# Altium footprint library IOPcbLib.PcbLib: 10 footprints
Each footprint in its own frame and in the unit in brackets; x right, y up, seen from the top. Pads: shape width x height; smd on the part's side, far side on the other; paste and mask are expansions set on the pad; w line width, h text height; cw(c..) or ccw(c..) is an arc to the next point about the centre after c.
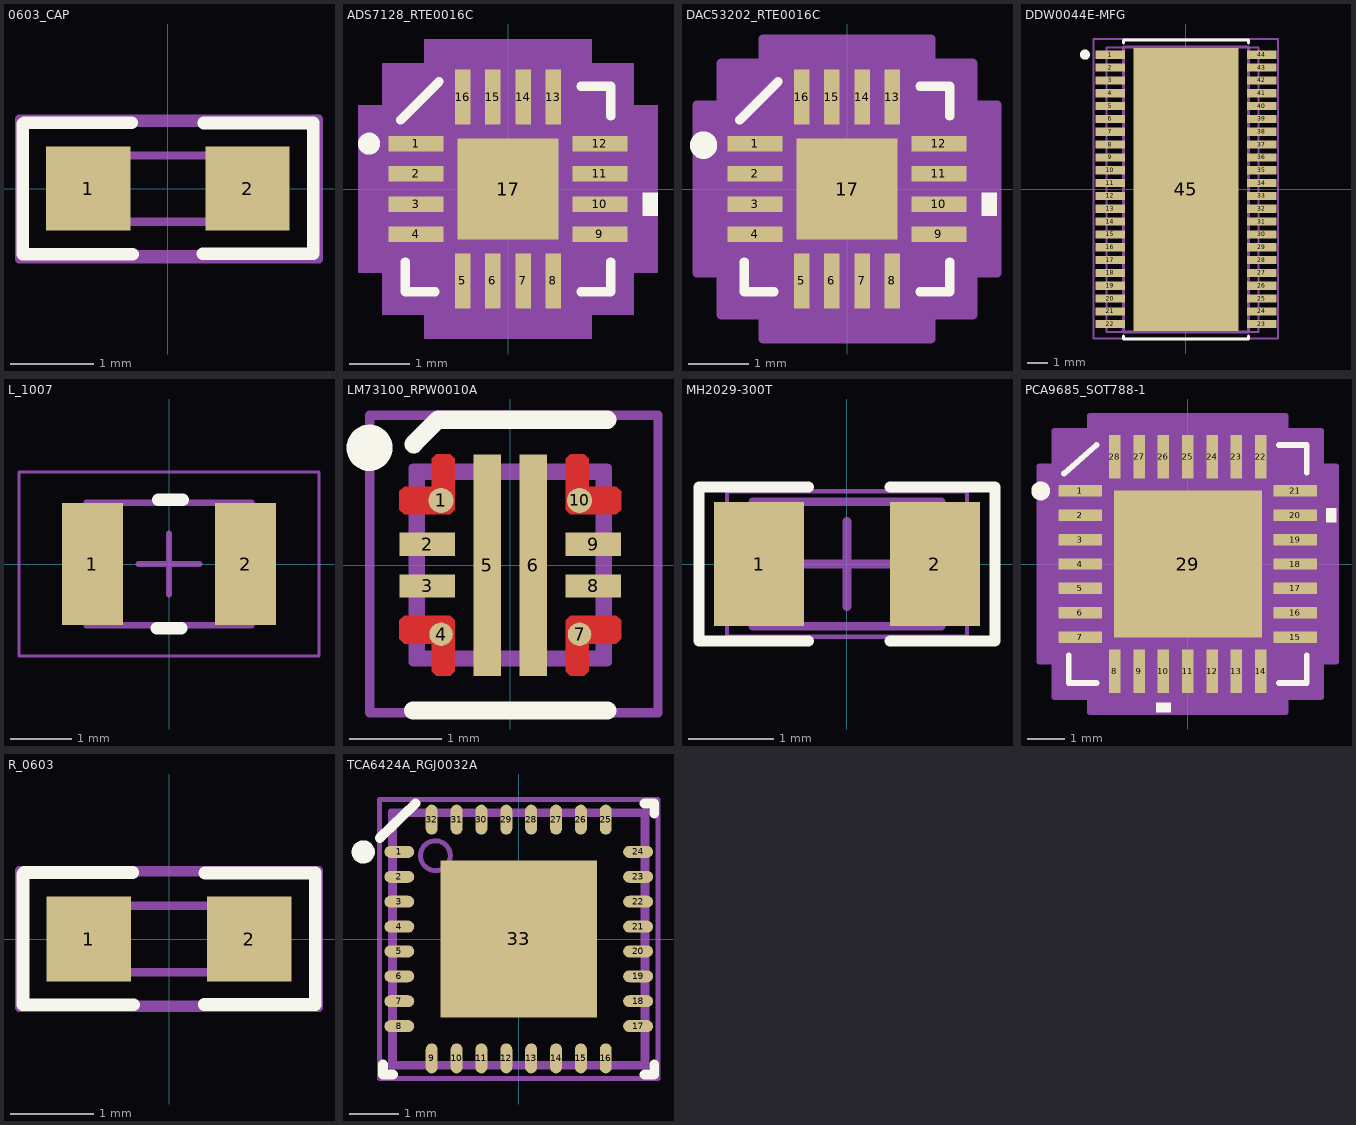
[diagram p0: the footprints below, top view; thin cyan lines are the x and y axes]

## 0603_CAP [mil]
pads (2):
  rect 40x40 smd: 1(-37.89,0.14) 2(37.89,0.14)
Top Overlay:
  lines w6: -68.99,-30.89 -68.99,30.89 ; -68.9,-30.98 -16.76,-30.98 ; -68.36,31.53 -17.13,31.53 ; 16.59,-30.84 69.1,-30.84 69.1,31.36 16.97,31.36
Top Assembly:
  lines w3.94: -68.9,-30.98 -68.9,31.53 69.1,31.53 69.1,-30.98 -68.9,-30.98
  text ".Designator" at -59.06,-7.87 h39.37
Top Component Outline:
  lines w4: -31.49,-15.6 -31.49,15.89 31.5,15.89 31.5,-15.6 -31.49,-15.6
Mechanical 15:
  lines w3.94: -70.79,-33.46 71.85,-33.46 71.85,33.39 -70.79,33.39 -70.79,-33.46
3D body "User Library-ECHU_PPS.step": height 27.56, standoff 0, extent -31.49,-15.6 31.5,15.89

## ADS7128_RTE0016C [mm]
pads (17):
  rect 0.908x0.255 smd paste+0: 1(-1.521,0.75) 2(-1.521,0.25) 3(-1.521,-0.25) 4(-1.521,-0.75) 9(1.521,-0.75) 10(1.521,-0.25) 11(1.521,0.25) 12(1.521,0.75)
  rect 0.255x0.908 smd paste+0: 5(-0.75,-1.521) 6(-0.25,-1.521) 7(0.25,-1.521) 8(0.75,-1.521) 13(0.75,1.521) 14(0.25,1.521) 15(-0.25,1.521) 16(-0.75,1.521)
  rect 1.676x1.676 smd paste+0: 17(0,0)
Top Overlay:
  circle w0.254: c-2.3,0.75 r0.056
  region: 2.229,-0.059 2.483,-0.059 2.483,-0.44 2.229,-0.44
  lines w0.152: -1.778,1.143 -1.143,1.778 ; -1.702,-1.21 -1.702,-1.702 -1.21,-1.702 ; 1.21,-1.702 1.702,-1.702 1.702,-1.21 ; 1.21,1.702 1.702,1.702 1.702,1.21
Top Assembly:
  lines w0.1: -1.498,-1.498 1.498,-1.498 1.498,1.498 -1.498,1.498 -1.498,-1.498
  text ".Designator" at -1.3,-0.314 h1.52
Top Component Outline:
  lines w0.025: -1.575,0.305 -0.305,1.575 ; -1.575,-1.575 1.575,-1.575 1.575,1.575 -1.575,1.575 -1.575,-1.575 ; -1.575,-0.902 -1.575,-0.598 -1.575,-0.902 ; -1.575,-0.402 -1.575,-0.098 -1.575,-0.402 ; -1.575,0.098 -1.575,0.402 -1.575,0.098 ; -1.575,0.598 -1.575,0.902 -1.575,0.598 ; -0.902,-1.575 -0.598,-1.575 -0.902,-1.575 ; -0.902,1.575 -0.598,1.575 -0.902,1.575 ; -0.402,-1.575 -0.098,-1.575 -0.402,-1.575 ; -0.402,1.575 -0.098,1.575 -0.402,1.575 ; 0.098,-1.575 0.402,-1.575 0.098,-1.575 ; 0.098,1.575 0.402,1.575 0.098,1.575 ; 0.598,-1.575 0.902,-1.575 0.598,-1.575 ; 0.598,1.575 0.902,1.575 0.598,1.575 ; 1.575,-0.902 1.575,-0.598 1.575,-0.902 ; 1.575,-0.402 1.575,-0.098 1.575,-0.402 ; 1.575,0.098 1.575,0.402 1.575,0.098 ; 1.575,0.598 1.575,0.902 1.575,0.598
  text "*" at -1.384,0.365 h1.27
Mechanical 15:
  region: -1.385,-2.083 -2.083,-2.083 -2.083,-1.385 -2.483,-1.385 -2.483,1.385 -2.083,1.385 -2.083,2.083 -1.385,2.083 -1.385,2.483 1.385,2.483 1.385,2.083 2.083,2.083 2.083,1.385 2.483,1.385 2.483,-1.385 2.083,-1.385 2.083,-2.083 1.385,-2.083 1.385,-2.483 -1.385,-2.483
3D body "WQFN16_RTE_TEX.step": height 0.81, standoff 0, extent -1.575,-1.575 1.575,1.575

## DAC53202_RTE0016C [mm]
pads (17):
  rect 0.908x0.255 smd paste+0: 1(-1.521,0.75) 2(-1.521,0.25) 3(-1.521,-0.25) 4(-1.521,-0.75) 9(1.521,-0.75) 10(1.521,-0.25) 11(1.521,0.25) 12(1.521,0.75)
  rect 0.255x0.908 smd paste+0: 5(-0.75,-1.521) 6(-0.25,-1.521) 7(0.25,-1.521) 8(0.75,-1.521) 13(0.75,1.521) 14(0.25,1.521) 15(-0.25,1.521) 16(-0.75,1.521)
  rect 1.68x1.68 smd paste+0: 17(0,0)
Top Overlay:
  circle w0.254: c-2.375,0.725 r0.1
  region: 2.229,-0.06 2.483,-0.06 2.483,-0.441 2.229,-0.441
  lines w0.152: -1.778,1.143 -1.143,1.778 ; -1.702,-1.21 -1.702,-1.702 -1.21,-1.702 ; 1.21,-1.702 1.702,-1.702 1.702,-1.21 ; 1.21,1.702 1.702,1.702 1.702,1.21
Top Assembly:
  lines w0.1: -1.498,-1.498 1.498,-1.498 1.498,1.498 -1.498,1.498 -1.498,-1.498
  text ".Designator" at -0.3,-0.1 h1.27
Top Component Outline:
  lines w0.025: -1.575,0.305 -0.305,1.575 ; -1.575,-1.575 1.575,-1.575 1.575,1.575 -1.575,1.575 -1.575,-1.575 ; -1.575,-0.903 -1.575,-0.598 -1.575,-0.903 ; -1.575,-0.402 -1.575,-0.098 -1.575,-0.402 ; -1.575,0.098 -1.575,0.402 -1.575,0.098 ; -1.575,0.598 -1.575,0.903 -1.575,0.598 ; -0.903,-1.575 -0.598,-1.575 -0.903,-1.575 ; -0.903,1.575 -0.598,1.575 -0.903,1.575 ; -0.402,-1.575 -0.098,-1.575 -0.402,-1.575 ; -0.402,1.575 -0.098,1.575 -0.402,1.575 ; 0.098,-1.575 0.402,-1.575 0.098,-1.575 ; 0.098,1.575 0.402,1.575 0.098,1.575 ; 0.598,-1.575 0.903,-1.575 0.598,-1.575 ; 0.598,1.575 0.903,1.575 0.598,1.575 ; 1.575,-0.903 1.575,-0.598 1.575,-0.903 ; 1.575,-0.402 1.575,-0.098 1.575,-0.402 ; 1.575,0.098 1.575,0.402 1.575,0.098 ; 1.575,0.598 1.575,0.903 1.575,0.598
  text "*" at -1.384,0.365 h1.27
Mechanical 15:
  region: -1.386,-2.083 -2.083,-2.083 -2.083,-1.386 -2.483,-1.386 -2.483,1.386 -2.083,1.386 -2.083,2.083 -1.386,2.083 -1.386,2.483 1.386,2.483 1.386,2.083 2.083,2.083 2.083,1.386 2.483,1.386 2.483,-1.386 2.083,-1.386 2.083,-2.083 1.386,-2.083 1.386,-2.483 -1.386,-2.483
  lines w0.152: -2.483,-1.386 -2.483,1.386 -2.083,1.386 -2.083,2.083 -1.386,2.083 -1.386,2.483 1.386,2.483 1.386,2.083 2.083,2.083 2.083,1.386 2.483,1.386 2.483,-1.386 2.083,-1.386 2.083,-2.083 1.386,-2.083 1.386,-2.483 -1.386,-2.483 -1.386,-2.083 -2.083,-2.083 -2.083,-1.386 -2.483,-1.386
3D body "QFN16_RTE_TEX.step": height 0.81, standoff 0, extent -1.575,-1.575 1.575,1.575

## DDW0044E-MFG [mm]
pads (45):
  rect 1.45x0.4 smd paste+0: 1(-3.75,6.667) 2(-3.75,6.032) 3(-3.75,5.397) 4(-3.75,4.763) 5(-3.75,4.127) 6(-3.75,3.492) 7(-3.75,2.857) 8(-3.75,2.222) 9(-3.75,1.587) 10(-3.75,0.953) 11(-3.75,0.318) 12(-3.75,-0.318) 13(-3.75,-0.953) 14(-3.75,-1.587) 15(-3.75,-2.222) 16(-3.75,-2.857) 17(-3.75,-3.492) 18(-3.75,-4.127) 19(-3.75,-4.763) 20(-3.75,-5.397) 21(-3.75,-6.032) 22(-3.75,-6.667) 23(3.75,-6.667) 24(3.75,-6.032) 25(3.75,-5.397) 26(3.75,-4.763) 27(3.75,-4.127) 28(3.75,-3.492) 29(3.75,-2.857) 30(3.75,-2.222) 31(3.75,-1.587) 32(3.75,-0.953) 33(3.75,-0.318) 34(3.75,0.318) 35(3.75,0.953) 36(3.75,1.587) 37(3.75,2.222) 38(3.75,2.857) 39(3.75,3.492) 40(3.75,4.127) 41(3.75,4.763) 42(3.75,5.397) 43(3.75,6.032) 44(3.75,6.667)
  rect 5.2x14 smd paste-6.987: 45(0,0)
Top Overlay:
  circle w0.25: c-5,6.675 r0.125
  lines w0.15: -3.1,-7.243 -3.1,-7.4 3.1,-7.4 3.1,-7.243 ; -3.1,7.243 -3.1,7.4 3.1,7.4 3.1,7.243
Top Paste:
  region: -1.85,-4 -1.9,-3.95 -1.9,3.95 -1.85,4 1.85,4 1.9,3.95 1.9,-3.95 1.85,-4
Top Solder:
  region: -1.85,-4 -1.9,-3.95 -1.9,3.95 -1.85,4 1.85,4 1.9,3.95 1.9,-3.95 1.85,-4
Top Assembly:
  lines w0.1: -3.923,-7.048 3.598,-7.048 3.598,7.023 -3.923,7.023 -3.923,-7.048
  text ".Designator" at -2.7,-0.3 h1.27
Top Component Outline:
  lines w0.15: -3.1,-7.05 3.1,-7.05 3.1,7.05 -3.1,7.05 -3.1,-7.05
Mechanical 15:
  lines w0.1: -4.573,-7.373 4.548,-7.373 4.548,7.448 -4.573,7.448 -4.573,-7.373
3D body "DDW0044E.stp": height 1, standoff 0, extent -4.035,-7 4.085,7

## L_1007 [mm] "Indcutor measurements from TAIYO YUDEN LSQ INDUCTOR"
height 2
pads (2):
  rect 1x2 smd: 1(-1.25,0) 2(1.25,0)
Top Overlay:
  lines w0.2: -0.2,-1.05 0.2,-1.05 ; -0.175,1.05 0.225,1.05
Top Assembly:
  lines w0.1: -1.35,-1 -1.35,1 1.35,1 1.35,-1 -1.35,-1
  text ".Designator" at -1.3,-0.414 h1.52
Mechanical 15:
  lines w0.05: -2.45,-1.5 -2.45,1.5 2.45,1.5 2.45,-1.5 -2.45,-1.5
  lines w0.1: -0.5,0 0.5,0 ; 0,-0.5 0,0.5
3D body: height 2, standoff 0, extent -0.75,-1 0.75,1
3D body: height 2, standoff 0, extent -1.35,-1 -0.75,1
3D body: height 2, standoff 0, extent 0.75,-1 1.35,1

## LM73100_RPW0010A [mm]
pads (10):
  round 0.27 smd paste-0.122 mask+0: 1(-0.75,0.7) 10(0.75,0.7)
  rect 0.6x0.25 smd paste+0: 2(-0.9,0.225) 3(-0.9,-0.225) 8(0.9,-0.225) 9(0.9,0.225)
  round 0.255 smd paste-0.115 mask+0: 4(-0.75,-0.75) 7(0.75,-0.75)
  rect 0.3x2.4 smd paste-1.187: 5(-0.25,0) 6(0.25,0)
Top Layer:
  region: -1.15,0.85 -0.85,0.85 -0.85,1.15 -0.8,1.2 -0.65,1.2 -0.6,1.15 -0.6,0.6 -0.65,0.55 -1.15,0.55 -1.2,0.6 -1.2,0.8
  region: -1.15,-0.85 -0.85,-0.85 -0.85,-1.15 -0.8,-1.2 -0.65,-1.2 -0.6,-1.15 -0.6,-0.6 -0.65,-0.55 -1.15,-0.55 -1.2,-0.6 -1.2,-0.8
  region: 1.15,-0.85 0.85,-0.85 0.85,-1.15 0.8,-1.2 0.65,-1.2 0.6,-1.15 0.6,-0.6 0.65,-0.55 1.15,-0.55 1.2,-0.6 1.2,-0.8
  region: 1.15,0.85 0.85,0.85 0.85,1.15 0.8,1.2 0.65,1.2 0.6,1.15 0.6,0.6 0.65,0.55 1.15,0.55 1.2,0.6 1.2,0.8
Top Overlay:
  circle w0.25: c-1.524,1.27 r0.125
  lines w0.2: -1.05,-1.575 1.05,-1.575 ; -1.046,1.31 -0.782,1.575 1.05,1.575
Top Paste:
  region: 1.15,-0.825 0.825,-0.825 0.825,-1.15 0.775,-1.2 0.65,-1.2 0.6,-1.15 0.6,-0.6 0.65,-0.55 1.15,-0.55 1.2,-0.6 1.2,-0.775
  region: 1.15,0.825 0.825,0.825 0.825,1.15 0.775,1.2 0.65,1.2 0.6,1.15 0.6,0.6 0.65,0.55 1.15,0.55 1.2,0.6 1.2,0.775
  region: -1.15,0.825 -0.825,0.825 -0.825,1.15 -0.775,1.2 -0.65,1.2 -0.6,1.15 -0.6,0.6 -0.65,0.55 -1.15,0.55 -1.2,0.6 -1.2,0.775
  region: -1.15,-0.825 -0.825,-0.825 -0.825,-1.15 -0.775,-1.2 -0.65,-1.2 -0.6,-1.15 -0.6,-0.6 -0.65,-0.55 -1.15,-0.55 -1.2,-0.6 -1.2,-0.775
  region: -0.16,1.16 -0.11,1.11 -0.11,0.15 -0.16,0.1 -0.34,0.1 -0.39,0.15 -0.39,1.11 -0.34,1.16
  region: 0.39,1.11 0.39,0.15 0.34,0.1 0.16,0.1 0.11,0.15 0.11,1.11 0.16,1.16 0.34,1.16
  region: -0.16,-1.16 -0.34,-1.16 -0.39,-1.11 -0.39,-0.15 -0.34,-0.1 -0.16,-0.1 -0.11,-0.15 -0.11,-1.11
  region: 0.39,-0.15 0.39,-1.11 0.34,-1.16 0.16,-1.16 0.11,-1.11 0.11,-0.15 0.16,-0.1 0.34,-0.1
Top Solder:
  region: -1.15,0.85 -0.85,0.85 -0.85,1.15 -0.8,1.2 -0.65,1.2 -0.6,1.15 -0.6,0.6 -0.65,0.55 -1.15,0.55 -1.2,0.6 -1.2,0.8
  region: -0.85,-1.15 -0.85,-0.85 -1.15,-0.85 -1.2,-0.8 -1.2,-0.6 -1.15,-0.55 -0.65,-0.55 -0.6,-0.6 -0.6,-1.15 -0.65,-1.2 -0.8,-1.2
  region: 1.15,-0.85 0.85,-0.85 0.85,-1.15 0.8,-1.2 0.65,-1.2 0.6,-1.15 0.6,-0.6 0.65,-0.55 1.15,-0.55 1.2,-0.6 1.2,-0.8
  region: 0.85,1.15 0.85,0.85 1.15,0.85 1.2,0.8 1.2,0.6 1.15,0.55 0.65,0.55 0.6,0.6 0.6,1.15 0.65,1.2 0.8,1.2
Top Assembly:
  lines w0.1: -0.973,-0.973 0.973,-0.973 0.973,0.973 -0.973,0.973 -0.973,-0.973
  text ".Designator" at -0.9,-0.3 h1.27
Top Component Outline:
  lines w0.1: -1.05,-1.05 1.05,-1.05 1.05,1.05 -1.05,1.05 -1.05,-1.05
Mechanical 15:
  lines w0.1: -1.523,-1.6 1.6,-1.6 1.6,1.623 -1.523,1.623 -1.523,-1.6
3D body "LM73100RPWR.STEP": height 1, standoff 0, extent -1,-1.025 1,0.975

## MH2029-300T [mm] "Ferrite Bead MH2029-300T"
height 1.05
pads (2):
  rect 1.05x1.45 smd: 1(-1.025,0) 2(1.025,0)
Top Overlay:
  lines w0.127: -0.45,-0.9 -1.725,-0.9 -1.725,0.9 ; -0.45,0.9 -1.725,0.9 ; 0.5,-0.9 1.725,-0.9 1.725,0.9 0.5,0.9 ; -1.725,0.9 -1.725,0.9
Top Assembly:
  lines w0.1: -1.1,-0.725 1.1,-0.725 1.1,0.725 -1.1,0.725 -1.1,-0.725
  text ".Designator" at -0.9,-0.414 h1.52
Mechanical 15:
  lines w0.05: -1.4,-0.85 1.4,-0.85 1.4,0.85 -1.4,0.85 -1.4,-0.85
  lines w0.1: -0.5,0 0.5,0 ; 0,-0.5 0,0.5
3D body: height 1.05, standoff 0, extent 0.45,-0.725 1.1,0.725
3D body: height 1.05, standoff 0, extent -1.1,-0.725 -0.45,0.725
3D body: height 1.05, standoff 0, extent -0.45,-0.725 0.45,0.725

## PCA9685_SOT788-1 [mm]
pads (29):
  rect 1.162x0.306 smd paste+0: 1(-2.867,1.95) 2(-2.867,1.3) 3(-2.867,0.65) 4(-2.867,0) 5(-2.867,-0.65) 6(-2.867,-1.3) 7(-2.867,-1.95) 15(2.867,-1.95) 16(2.867,-1.3) 17(2.867,-0.65) 18(2.867,0) 19(2.867,0.65) 20(2.867,1.3) 21(2.867,1.95)
  rect 0.306x1.162 smd paste+0: 8(-1.95,-2.867) 9(-1.3,-2.867) 10(-0.65,-2.867) 11(0,-2.867) 12(0.65,-2.867) 13(1.3,-2.867) 14(1.95,-2.867) 22(1.95,2.867) 23(1.3,2.867) 24(0.65,2.867) 25(0,2.867) 26(-0.65,2.867) 27(-1.3,2.867) 28(-1.95,2.867)
  rect 3.95x3.912 smd paste+0: 29(0,0)
Top Overlay:
  circle w0.254: c-3.925,1.95 r0.125
  region: -0.459,-3.702 -0.84,-3.702 -0.84,-3.956 -0.459,-3.956
  region: 3.702,1.49 3.956,1.49 3.956,1.109 3.702,1.109
  lines w0.152: -3.302,2.413 -2.436,3.175 ; -3.175,-2.436 -3.175,-3.175 -2.436,-3.175 ; 2.436,-3.175 3.175,-3.175 3.175,-2.436 ; 2.436,3.175 3.175,3.175 3.175,2.436
Top Assembly:
  lines w0.1: -2.971,-2.971 2.971,-2.971 2.971,2.971 -2.971,2.971 -2.971,-2.971
  text ".Designator" at -0.5,-0.2 h1.27
Top Component Outline:
  lines w0.025: -3.048,1.778 -1.778,3.048 ; -3.048,-3.048 3.048,-3.048 3.048,3.048 -3.048,3.048 -3.048,-3.048 ; -3.048,-2.128 -3.048,-1.772 -3.048,-2.128 ; -3.048,-1.478 -3.048,-1.122 -3.048,-1.478 ; -3.048,-0.828 -3.048,-0.472 -3.048,-0.828 ; -3.048,-0.178 -3.048,0.178 -3.048,-0.178 ; -3.048,0.472 -3.048,0.828 -3.048,0.472 ; -3.048,1.122 -3.048,1.478 -3.048,1.122 ; -3.048,1.772 -3.048,2.128 -3.048,1.772 ; -2.128,-3.048 -1.772,-3.048 -2.128,-3.048 ; -2.128,3.048 -1.772,3.048 -2.128,3.048 ; -1.478,-3.048 -1.122,-3.048 -1.478,-3.048 ; -1.478,3.048 -1.122,3.048 -1.478,3.048 ; -0.828,-3.048 -0.472,-3.048 -0.828,-3.048 ; -0.828,3.048 -0.472,3.048 -0.828,3.048 ; -0.178,-3.048 0.178,-3.048 -0.178,-3.048 ; -0.178,3.048 0.178,3.048 -0.178,3.048 ; 0.472,-3.048 0.828,-3.048 0.472,-3.048 ; 0.472,3.048 0.828,3.048 0.472,3.048 ; 1.122,-3.048 1.478,-3.048 1.122,-3.048 ; 1.122,3.048 1.478,3.048 1.122,3.048 ; 1.772,-3.048 2.128,-3.048 1.772,-3.048 ; 1.772,3.048 2.128,3.048 1.772,3.048 ; 3.048,-2.128 3.048,-1.772 3.048,-2.128 ; 3.048,-1.478 3.048,-1.122 3.048,-1.478 ; 3.048,-0.828 3.048,-0.472 3.048,-0.828 ; 3.048,-0.178 3.048,0.178 3.048,-0.178 ; 3.048,0.472 3.048,0.828 3.048,0.472 ; 3.048,1.122 3.048,1.478 3.048,1.122 ; 3.048,1.772 3.048,2.128 3.048,1.772
  text "*" at -1.816,1.315 h1.27
Mechanical 15:
  region: -2.611,-3.556 -3.556,-3.556 -3.556,-2.611 -3.956,-2.611 -3.956,2.611 -3.556,2.611 -3.556,3.556 -2.611,3.556 -2.611,3.956 2.611,3.956 2.611,3.556 3.556,3.556 3.556,2.611 3.956,2.611 3.956,-2.611 3.556,-2.611 3.556,-3.556 2.611,-3.556 2.611,-3.956 -2.611,-3.956
  lines w0.152: -3.956,-2.611 -3.956,2.611 -3.556,2.611 -3.556,3.556 -2.611,3.556 -2.611,3.956 2.611,3.956 2.611,3.556 3.556,3.556 3.556,2.611 3.956,2.611 3.956,-2.611 3.556,-2.611 3.556,-3.556 2.611,-3.556 2.611,-3.956 -2.611,-3.956 -2.611,-3.556 -3.556,-3.556 -3.556,-2.611 -3.956,-2.611
3D body "SOT788-1_NXP.step": height 0.99, standoff 0, extent -3.048,-3.048 3.048,3.048

## R_0603 [mil]
pads (2):
  rect 40x40 smd: 1(-37.89,0) 2(37.89,0)
Top Overlay:
  lines w6: -68.99,-31.03 -68.99,30.75 ; -68.9,-31.13 -16.76,-31.13 ; -68.36,31.38 -17.13,31.38 ; 16.59,-30.98 69.1,-30.98 69.1,31.22 16.97,31.22
Top Assembly:
  lines w3.94: -68.9,-31.13 69.1,-31.13 69.1,31.38 -68.9,31.38 -68.9,-31.13
  text ".Designator" at -59.06,-8.02 h39.37
Top Component Outline:
  lines w4: -31.49,-15.74 31.5,-15.74 31.5,15.75 -31.49,15.75 -31.49,-15.74
Mechanical 15:
  lines w3.94: -70.87,-32.4 70.87,-32.4 70.87,32.4 -70.87,32.4 -70.87,-32.4
3D body "User Library-RES_1609-0603.step": height 22.05, standoff 0, extent -33.46,-16.73 33.47,14.77

## TCA6424A_RGJ0032A [mm]
pads (33):
  oval 0.6x0.24 smd paste-0.102 mask+0.051: 1(-2.4,1.75) 2(-2.4,1.25) 3(-2.4,0.75) 4(-2.4,0.25) 5(-2.4,-0.25) 6(-2.4,-0.75) 7(-2.4,-1.25) 8(-2.4,-1.75) 17(2.4,-1.75) 18(2.4,-1.25) 19(2.4,-0.75) 20(2.4,-0.25) 21(2.4,0.25) 22(2.4,0.75) 23(2.4,1.25) 24(2.4,1.75)
  oval 0.24x0.6 smd paste-0.102 mask+0.051: 9(-1.75,-2.4) 10(-1.25,-2.4) 11(-0.75,-2.4) 12(-0.25,-2.4) 13(0.25,-2.4) 14(0.75,-2.4) 15(1.25,-2.4) 16(1.75,-2.4) 25(1.75,2.4) 26(1.25,2.4) 27(0.75,2.4) 28(0.25,2.4) 29(-0.25,2.4) 30(-0.75,2.4) 31(-1.25,2.4) 32(-1.75,2.4)
  rect 3.15x3.15 smd mask+0.051: 33(0,0)
Top Overlay:
  circle w0.254: c-3.125,1.75 r0.106
  lines w0.2: -2.794,2.032 -2.075,2.725 ; -2.725,-2.525 -2.725,-2.725 -2.525,-2.725 ; 2.525,-2.725 2.725,-2.725 2.725,-2.525 ; 2.525,2.725 2.725,2.725 2.725,2.525
Top Assembly:
  lines w0.1: -2.498,-2.498 2.498,-2.498 2.498,2.498 -2.498,2.498 -2.498,-2.498
  text ".Designator" at -1.7,-0.5 h1.27
Top Component Outline:
  circle w0.1: c-1.675,1.675 r0.3
  lines w0.1: -2.575,-2.575 2.575,-2.575 2.575,2.575 -2.575,2.575 -2.575,-2.575
Mechanical 15:
  lines w0.1: -2.8,-2.8 2.8,-2.8 2.8,2.8 -2.8,2.8 -2.8,-2.8
3D body "TCA6424ARGJR--3DModel-STEP-56544.STEP": height 0.6, standoff 0, extent -2.525,-2.5 2.475,2.5